# Altium schematic symbol library TAJP226M006RNJ.SchLib: 1 symbol
Pins are listed as number, name and electrical type; pins without a type are passive.

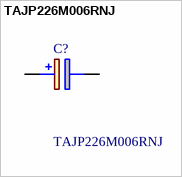
[diagram p0: symbol TAJP226M006RNJ]

## TAJP226M006RNJ
designator C?
AVX - TAJP226M006RNJ - CAP, TANT, 22UF, 6.3V, CASE P; Geometry.Height: 1.7mm; Mouser Part Number: 581-TAJP226M006RNJ; Mouser Price/Stock: https://www.mouser.com/Search/Refine.aspx?Keyword=581-TAJP226M006RNJ; Manufacturer_Name: AVX; Manufacturer_Part_Number: TAJP226M006RNJ; Datasheet Link: https://componentsearchengine.com/Datasheets/1/TAJP226M006RNJ.pdf
footprint CAPPM2014X170N
pins: 1 +, 2 -